# Altium footprint library Footprints.PcbLib: 52 footprints (part 2 of 4)
Each footprint in its own frame and in the unit in brackets; x right, y up, seen from the top. Pads: shape width x height; smd on the part's side, far side on the other; paste and mask are expansions set on the pad; w line width, h text height; cw(c..) or ccw(c..) is an arc to the next point about the centre after c.
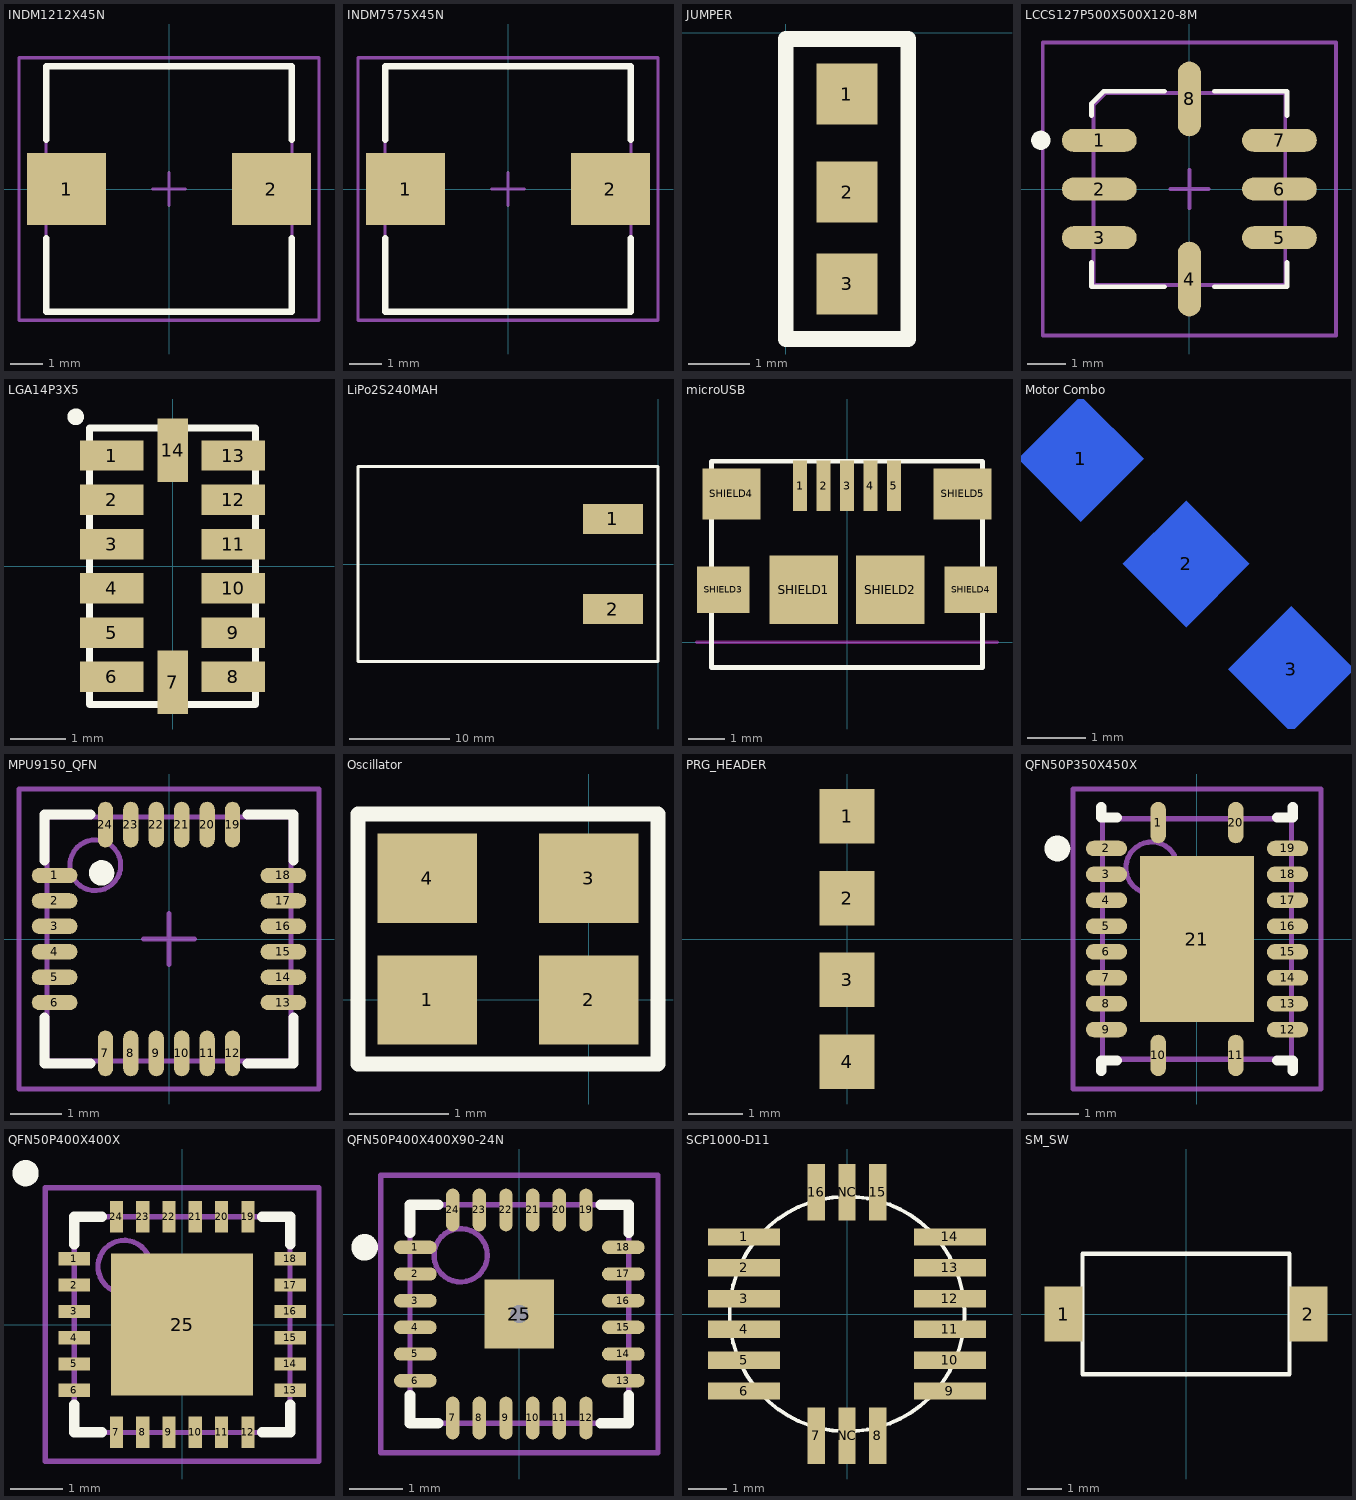
[diagram p1: the footprints below, top view; thin cyan lines are the x and y axes]

## INDM1212X45N [mm] "Molded Inductor, 2-Leads, Body 7.5x7.5mm, IPC Medium Density"
height 4.5
pads (2):
  rect 2.4x2.2 smd: 1(-3.125,0) 2(3.125,0)
Top Overlay:
  lines w0.2: -3.75,-1.5 -3.75,-3.75 3.75,-3.75 3.75,-1.5 ; -3.75,1.5 -3.75,3.75 3.75,3.75 3.75,1.5
Mechanical 13:
  lines w0.1: -3.75,-3.75 3.75,-3.75 3.75,3.75 -3.75,3.75 -3.75,-3.75
Mechanical 15:
  lines w0.1: -0.5,0 0.5,0 ; 0,-0.5 0,0.5 ; -4.575,-4 4.575,-4 4.575,4 -4.575,4 -4.575,-4
3D body: height 4.5, standoff 0, extent -3.75,-3.75 3.75,3.75

## INDM7575X45N [mm] "Molded Inductor, 2-Leads, Body 7.5x7.5mm, IPC Medium Density"
height 4.5
pads (2):
  rect 2.4x2.2 smd: 1(-3.125,0) 2(3.125,0)
Top Overlay:
  lines w0.2: -3.75,-1.5 -3.75,-3.75 3.75,-3.75 3.75,-1.5 ; -3.75,1.5 -3.75,3.75 3.75,3.75 3.75,1.5
Mechanical 13:
  lines w0.1: -3.75,-3.75 -3.75,3.75 3.75,3.75 3.75,-3.75 -3.75,-3.75
Mechanical 15:
  lines w0.1: -0.5,0 0.5,0 ; 0,-0.5 0,0.5 ; -4.575,-4 -4.575,4 4.575,4 4.575,-4 -4.575,-4
3D body: height 4.5, standoff 0, extent -3.75,-3.75 3.75,3.75

## JUMPER [mm]
pads (3):
  rect 1x1 smd: 1(1,-1) 2(1,-2.6) 3(1,-4.1)
Top Overlay:
  lines w0.254: 0,-5 2,-5 2,-0.1 0,-0.1 0,-5

## LCCS127P500X500X120-8M [mm] "LCC, 8-Pins, Body 5.3x5.3mm (max), Pitch 1.27mm, IPC Low Density"
height 1.2
pads (8):
  oval 1.95x0.6 smd: 1(-2.35,1.27) 2(-2.35,0) 3(-2.35,-1.27) 5(2.35,-1.27) 6(2.35,0) 7(2.35,1.27)
  oval 0.6x1.95 smd: 4(0,-2.35) 8(0,2.35)
Top Overlay:
  circle w0.25: c-3.875,1.27 r0.125
  lines w0.127: -2.55,-1.92 -2.55,-2.55 -0.65,-2.55 ; -2.55,1.92 -2.55,2.235 -2.235,2.55 -0.65,2.55 ; 0.65,-2.55 2.55,-2.55 2.55,-1.92 ; 0.65,2.55 2.55,2.55 2.55,1.92
Mechanical 13:
  lines w0.1: -2.5,-2.5 2.5,-2.5 2.5,2.5 -2.185,2.5 -2.5,2.185 -2.5,-2.5
Mechanical 15:
  lines w0.1: -0.5,0 0.5,0 ; 0,-0.5 0,0.5 ; -3.825,-3.825 3.825,-3.825 3.825,3.825 -3.825,3.825 -3.825,-3.825
3D body: height 1.2, standoff 0, extent -2.5,-2.5 2.5,2.5

## LGA14P3X5 [mm] "14-Terminal Land Grid Array"
height 1
pads (14):
  rect 1.145x0.55 smd: 1(-1.098,2) 2(-1.098,1.2) 3(-1.098,0.4) 4(-1.098,-0.4) 5(-1.098,-1.2) 6(-1.098,-2) 8(1.098,-2) 9(1.098,-1.2) 10(1.098,-0.4) 11(1.098,0.4) 12(1.098,1.2) 13(1.098,2)
  rect 0.55x1.145 smd: 7(0,-2.098) 14(0,2.097)
Top Overlay:
  circle w0.2: c-1.75,2.7 r0.05
  lines w0.127: -1.5,-2.5 1.5,-2.5 1.5,2.5 -1.5,2.5 -1.5,-2.5
3D body: height 1, standoff 0.1, extent -1.5,-2.5 1.5,2.5

## LiPo2S240MAH [mm] "LiPo 2 cell battery 7.4V"
height 10
pads (2):
  rect 6x3 smd: 1(-4.5,4.5) 2(-4.5,-4.5)
Top Overlay:
  lines w0.254: -30,-9.75 0,-9.75 0,9.75 -30,9.75 -30,-9.75
3D body: height 12, standoff 7, extent -30,-9.725 0.075,9.8
3D body: height 6, standoff 2, extent -30,-9.725 0.025,9.7

## microUSB [mm]
pads (11):
  rect 0.4x1.4 smd: 1(-1.3,4.325) 2(-0.65,4.325) 3(0,4.325) 4(0.65,4.325) 5(1.3,4.325)
  rect 1.9x1.9 smd: SHIELD1(-1.2,1.45) SHIELD2(1.2,1.45)
  rect 1.45x1.3 smd: SHIELD3(-3.425,1.45) SHIELD4(3.425,1.45)
  rect 1.6x1.4 smd: SHIELD4(-3.2,4.1) SHIELD5(3.2,4.1)
Top Overlay:
  lines w0.127: -3.75,-0.7 3.75,-0.7 3.75,5 -3.75,5 -3.75,-0.7
Keep-Out Layer:
  lines w0.1: -4.15,0 4.15,0
3D body: height 2.67, standoff -0.27, extent -4,-0.8 3.98,4.63

## Motor Combo [mm]
pads (3):
  rect 1.524x1.524 smd far side rot 45: 1(-11.6,-7.9) 2(-9.8,-9.7) 3(-8,-11.5)
via 0,-5 diameter 1.804 hole 1.55
via 0,5 diameter 1.804 hole 1.55
via 4.5,0 diameter 1.304 hole 1.05
via -4.5,0 diameter 1.304 hole 1.05
Bottom Overlay:
  text "A" at -10.6,-6.7 h1.52
  text "B" at -8.8,-8.9 h1.52
  text "C" at -7,-10.9 h1.52
3D body: height 6.2, standoff -10.9, extent -6.895,-6.9 6.9,6.923
3D body: height 6.25, standoff 3.59, extent -31.636,-31.053 31.7,31.053

## MPU9150_QFN [mm] "QFN, 24-Leads, Body 4.8x4.8mm (max), Pitch 0.50mm, IPC Medium Density"
height 1.1
pads (24):
  oval 0.9x0.3 smd: 1(-2.25,1.25) 2(-2.25,0.75) 3(-2.25,0.25) 4(-2.25,-0.25) 5(-2.25,-0.75) 6(-2.25,-1.25) 13(2.25,-1.25) 14(2.25,-0.75) 15(2.25,-0.25) 16(2.25,0.25) 17(2.25,0.75) 18(2.25,1.25)
  oval 0.3x0.9 smd: 7(-1.25,-2.25) 8(-0.75,-2.25) 9(-0.25,-2.25) 10(0.25,-2.25) 11(0.75,-2.25) 12(1.25,-2.25) 19(1.25,2.25) 20(0.75,2.25) 21(0.25,2.25) 22(-0.25,2.25) 23(-0.75,2.25) 24(-1.25,2.25)
Top Overlay:
  circle w0.25: c-1.325,1.3 r0.125
  lines w0.2: -2.45,-1.55 -2.45,-2.45 -1.55,-2.45 ; -2.45,1.55 -2.45,2.45 -1.55,2.45 ; 1.55,-2.45 2.45,-2.45 2.45,-1.55 ; 1.55,2.45 2.45,2.45 2.45,1.55
Mechanical 13:
  circle w0.1: c-1.45,1.45 r0.5
  lines w0.1: -2.4,-2.4 -2.4,2.4 2.4,2.4 2.4,-2.4 -2.4,-2.4
Mechanical 15:
  lines w0.1: -0.5,0 0.5,0 ; 0,-0.5 0,0.5 ; -2.95,-2.95 -2.95,2.95 2.95,2.95 2.95,-2.95 -2.95,-2.95
3D body: height 1.1, standoff 0.11, extent -2.4,-2.4 2.4,2.4

## Oscillator [mm]
pads (4):
  rect 1x0.9 smd: 1(-1.625,0) 2(0,0) 3(0,1.225) 4(-1.625,1.225)
Top Overlay:
  lines w0.152: -2.323,-0.645 -2.323,1.873 0.698,1.873 0.698,-0.645 -2.323,-0.645
3D body: height 0.95, standoff 0, extent -2.23,-0.548 0.599,1.78

## PRG_HEADER [mm]
pads (4):
  rect 1x1 smd: 1(0,2.25) 2(0,0.75) 3(0,-0.75) 4(0,-2.25)
3D body: height 0, standoff 0, extent -0.5,-2.5 0.5,2.5

## QFN50P350X450X [mm] "QFN, 20-Leads, Body 4.7x3.7mm (max), Pitch 1.50mm, Pitch1 0.50mm, IPC Medium Density"
height 1
pads (21):
  oval 0.3x0.8 smd: 1(-0.75,2.25) 10(-0.75,-2.25) 11(0.75,-2.25) 20(0.75,2.25)
  oval 0.8x0.3 smd: 2(-1.75,1.75) 3(-1.75,1.25) 4(-1.75,0.75) 5(-1.75,0.25) 6(-1.75,-0.25) 7(-1.75,-0.75) 8(-1.75,-1.25) 9(-1.75,-1.75) 12(1.75,-1.75) 13(1.75,-1.25) 14(1.75,-0.75) 15(1.75,-0.25) 16(1.75,0.25) 17(1.75,0.75) 18(1.75,1.25) 19(1.75,1.75)
  rect 2.2x3.2 smd: 21(0,0)
Top Overlay:
  circle w0.25: c-2.7,1.75 r0.125
  lines w0.2: -1.85,-2.55 -1.85,-2.35 -1.55,-2.35 ; -1.85,2.55 -1.85,2.35 -1.55,2.35 ; 1.55,-2.35 1.85,-2.35 1.85,-2.55 ; 1.55,2.35 1.85,2.35 1.85,2.55
Mechanical 13:
  circle w0.1: c-0.875,1.375 r0.5
  lines w0.1: -1.825,-2.325 1.825,-2.325 1.825,2.325 -1.825,2.325 -1.825,-2.325
Mechanical 15:
  lines w0.1: -0.5,0 0.5,0 ; 0,-0.5 0,0.5 ; -2.4,-2.9 2.4,-2.9 2.4,2.9 -2.4,2.9 -2.4,-2.9
3D body: height 1, standoff 0.05, extent -1.825,-2.325 1.825,2.325

## QFN50P400X400X [mm] "QFN, 24-Leads, Body 4.1x4.1mm (max), Pitch 0.50mm, IPC Medium Density"
height 0.95
pads (25):
  rect 0.6x0.25 smd: 1(-2.05,1.25) 2(-2.05,0.75) 3(-2.05,0.25) 4(-2.05,-0.25) 5(-2.05,-0.75) 6(-2.05,-1.25) 13(2.05,-1.25) 14(2.05,-0.75) 15(2.05,-0.25) 16(2.05,0.25) 17(2.05,0.75) 18(2.05,1.25)
  rect 0.25x0.6 smd: 7(-1.25,-2.05) 8(-0.75,-2.05) 9(-0.25,-2.05) 10(0.25,-2.05) 11(0.75,-2.05) 12(1.25,-2.05) 19(1.25,2.05) 20(0.75,2.05) 21(0.25,2.05) 22(-0.25,2.05) 23(-0.75,2.05) 24(-1.25,2.05)
  rect 2.7x2.7 smd: 25(0,0)
Top Overlay:
  circle w0.25: c-2.975,2.875 r0.125
  lines w0.2: -2.05,-1.525 -2.05,-2.05 -1.525,-2.05 ; -2.05,1.525 -2.05,2.05 -1.525,2.05 ; 1.525,-2.05 2.05,-2.05 2.05,-1.525 ; 1.525,2.05 2.05,2.05 2.05,1.525
Mechanical 13:
  circle w0.1: c-1.1,1.1 r0.5
  lines w0.1: -2.05,-2.05 -2.05,2.05 2.05,2.05 2.05,-2.05 -2.05,-2.05
Mechanical 15:
  lines w0.1: -0.5,0 0.5,0 ; 0,-0.5 0,0.5 ; -2.6,-2.6 -2.6,2.6 2.6,2.6 2.6,-2.6 -2.6,-2.6
3D body: height 0.95, standoff 0.02, extent -2.05,-2.05 2.05,2.05

## QFN50P400X400X90-24N [mm] "QFN, 24-Leads, Body 4.1x4.1mm (max), Pitch 0.50mm, IPC Medium Density"
height 0.9
pads (25):
  oval 0.8x0.25 smd: 1(-1.95,1.25) 2(-1.95,0.75) 3(-1.95,0.25) 4(-1.95,-0.25) 5(-1.95,-0.75) 6(-1.95,-1.25) 13(1.95,-1.25) 14(1.95,-0.75) 15(1.95,-0.25) 16(1.95,0.25) 17(1.95,0.75) 18(1.95,1.25)
  oval 0.25x0.8 smd: 7(-1.25,-1.95) 8(-0.75,-1.95) 9(-0.25,-1.95) 10(0.25,-1.95) 11(0.75,-1.95) 12(1.25,-1.95) 19(1.25,1.95) 20(0.75,1.95) 21(0.25,1.95) 22(-0.25,1.95) 23(-0.75,1.95) 24(-1.25,1.95)
  rect 1.3x1.3 smd: 25(0,0)
via 0,0 diameter 0.66 hole 0.33
Top Overlay:
  circle w0.25: c-2.9,1.25 r0.125
  lines w0.2: -2.05,-1.525 -2.05,-2.05 -1.525,-2.05 ; -2.05,1.525 -2.05,2.05 -1.525,2.05 ; 1.525,-2.05 2.05,-2.05 2.05,-1.525 ; 1.525,2.05 2.05,2.05 2.05,1.525
Mechanical 13:
  circle w0.1: c-1.1,1.1 r0.5
  lines w0.1: -2.05,-2.05 2.05,-2.05 2.05,2.05 -2.05,2.05 -2.05,-2.05
Mechanical 15:
  lines w0.1: -0.5,0 0.5,0 ; 0,-0.5 0,0.5 ; -2.6,-2.6 2.6,-2.6 2.6,2.6 -2.6,2.6 -2.6,-2.6
3D body: height 0.9, standoff 0.05, extent -2.05,-2.05 2.05,2.05

## SCP1000-D11 [mm]
height 1.7
pads (18):
  rect 1.87x0.45 smd: 1(-2.67,2) 2(-2.67,1.2) 3(-2.67,0.4) 4(-2.67,-0.4) 5(-2.67,-1.2) 6(-2.67,-2) 9(2.67,-2) 10(2.67,-1.2) 11(2.67,-0.4) 12(2.67,0.4) 13(2.67,1.2) 14(2.67,2)
  rect 0.45x1.47 smd: 7(-0.8,-3.16) 8(0.8,-3.16) 15(0.8,3.16) 16(-0.8,3.16) NC(0,-3.16) NC(0,3.16)
Top Overlay:
  circle w0.1: c0,0 r3.05
3D body: height 1.7, standoff 0, extent -3.001,-3.05 3.075,3.038

## SM_SW [mm]
pads (2):
  rect 1.1x1.6 smd: 1(-3.55,0) 2(3.55,0)
Top Overlay:
  lines w0.127: -3,-1.75 3,-1.75 3,1.75 -3,1.75 -3,-1.75
3D body: height 3.5, standoff 0, extent -3,-1.75 3,1.75